# EAGLE library part CROMISH_ESP (library cromish_ESP)
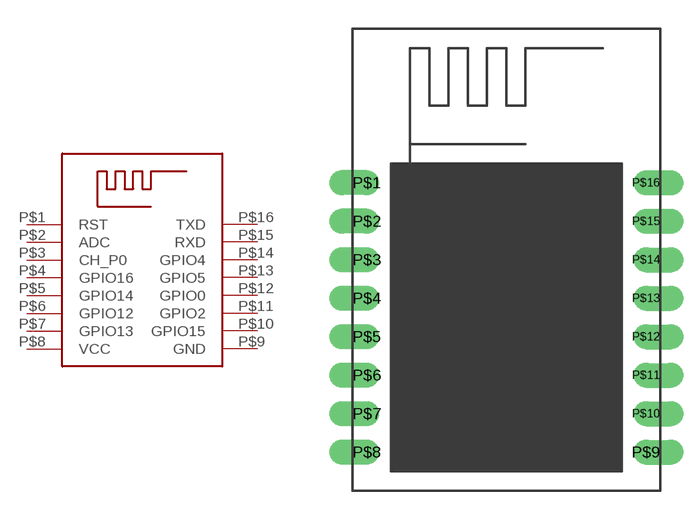
[diagram p0: symbol with the pads of CROMISH_ESP; footprint CROMISH_ESP]

Designator prefix -

## CROMISH_ESP  [CROMISH_ESP]
P$1  RST
P$2  ADC
P$3  CH_P0
P$4  GPIO16
P$5  GPIO14
P$6  GPIO12
P$7  GPIO13
P$8  VCC
P$9  GND
P$10  GPIO15
P$11  GPIO2
P$12  GPIO0
P$13  GPIO5
P$14  GPIO4
P$15  RXD
P$16  TXD

## Footprint CROMISH_ESP (pad centres in mm)
drill 0.8 offset: P$1 -7.25,10; P$2 -7.25,8; P$3 -7.25,6; P$4 -7.25,4; P$5 -7.25,2; P$6 -7.25,0; P$7 -7.25,-2; P$8 -7.25,-4; P$9 7.25,-4; P$10 7.25,-2; P$11 7.25,0; P$12 7.25,2; P$13 7.25,4; P$14 7.25,6; P$15 7.25,8; P$16 7.25,10